# Altium integrated library DS04-254-2-04BK-SMT.IntLib: 1 symbol
Pins are listed as number, name and electrical type; pins without a type are passive.

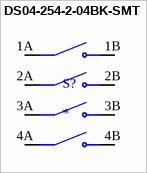
[diagram p0: symbol DS04-254-2-04BK-SMT]

## DS04-254-2-04BK-SMT
designator S?
4 Position, Surface Mount, 2.54 mm Pitch, Flat Slide Actuator, Flat Bottom, SMT Pin, DIP Switch; MP: DS04-254-2-04BK-SMT; MF: CUI Devices; Purchase-URL: https://pricing.snapeda.com/search/part/DS04-254-2-04BK-SMT/?ref=eda; CUI_purchase_URL: https://www.cuidevices.com/product/switches/dip-switches/ds04-254-smt-series?utm_source=snapeda.com&utm_medium=referral&utm_campaign=snapedaBOM; Package: None; SnapEDA_Link: https://www.snapeda.com/parts/DS04-254-2-04BK-SMT/CUI+Devices/view-part/?ref=snap; Value: *; Check_prices: https://www.snapeda.com/parts/DS04-254-2-04BK-SMT/CUI+Devices/view-part/?ref=eda; Availability: In Stock; Price: None
footprint SW_DS04-254-2-04BK-SMT
pins: 1A COM1, 1B NO1, 2A COM2, 2B NO2, 3A COM3, 3B NO3, 4A COM4, 4B NO4